# EAGLE library part MPU6050 (library MPU6050)
MEMs Gyroscope
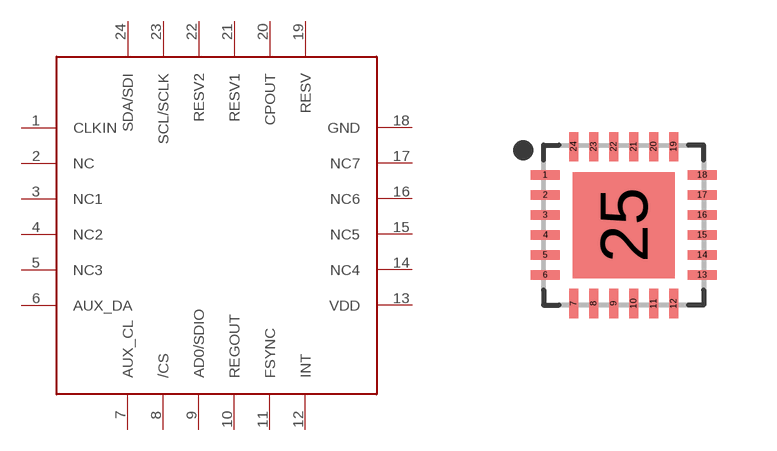
[diagram p0: symbol with the pads of QFN50P395X395X90-25T265X255N; footprint QFN50P395X395X90-25T265X255N]

Designator prefix -

## MPU6050  [QFN50P395X395X90-25T265X255N]
1  CLKIN
2  NC
3  NC1
4  NC2
5  NC3
6  AUX_DA
7  AUX_CL
8  /CS
9  AD0/SDIO
10  REGOUT
11  FSYNC
12  INT
13  VDD
14  NC4
15  NC5
16  NC6
17  NC7
18  GND
19  RESV
20  CPOUT
21  RESV1
22  RESV2
23  SCL/SCLK
24  SDA/SDI

## Footprint QFN50P395X395X90-25T265X255N (pad centres in mm)
24-QFN, 0.50 mm pitch, 3.95 X 3.95 X 0.90 mm body, 2.65 X 2.55 mm thermal pad 24-pin QFN package with 0.50 mm pitch with body size 3.95 X 3.95 X 0.90 mm and thermal pad size 2.65 X 2.55 mm
smd 0.727 x 0.232: 1 -1.961,1.25; 2 -1.961,0.75; 3 -1.961,0.25; 4 -1.961,-0.25; 5 -1.961,-0.75; 6 -1.961,-1.25; 13 1.961,-1.25; 14 1.961,-0.75; 15 1.961,-0.25; 16 1.961,0.25; 17 1.961,0.75; 18 1.961,1.25
smd 0.232 x 0.727: 7 -1.25,-1.961; 8 -0.75,-1.961; 9 -0.25,-1.961; 10 0.25,-1.961; 11 0.75,-1.961; 12 1.25,-1.961; 19 1.25,1.961; 20 0.75,1.961; 21 0.25,1.961; 22 -0.25,1.961; 23 -0.75,1.961; 24 -1.25,1.961
smd 2.55 x 2.65: 25 0,0